# EAGLE library part HDC2010YPAR (library Sensor)
GEN 2 HUMIDITY SENSOR Manufacturer's datasheet <http://www.ti.com/lit/ds/symlink/hdc2010.pdf>
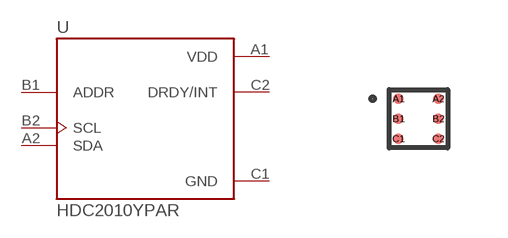
[diagram p6: symbol with the pads of HDC2010YPAR; footprint HDC2010YPAR]

Designator prefix U

## HDC2010YPAR (CREATED_BY: PCBLayout.com; DIGIKEY_PARTNO: 296-47774-2-ND; MANUFACTURER: Texas Instruments; MPN: HDC2010YPAR; PACKAGE: DSBGA-06)  [HDC2010YPAR]
A1  VDD  pwr
A2  SDA
B1  ADDR  in
B2  SCL  in
C1  GND  pwr
C2  DRDY/INT  out

## Footprint HDC2010YPAR (pad centres in mm)
smd 0.263 x 0.263: A1 -0.5,0.5; A2 0.5,0.5; B1 -0.5,0; B2 0.5,0; C1 -0.5,-0.5; C2 0.5,-0.5